# EAGLE library part ANTENOVA_GPS_M10382 (library fbri)
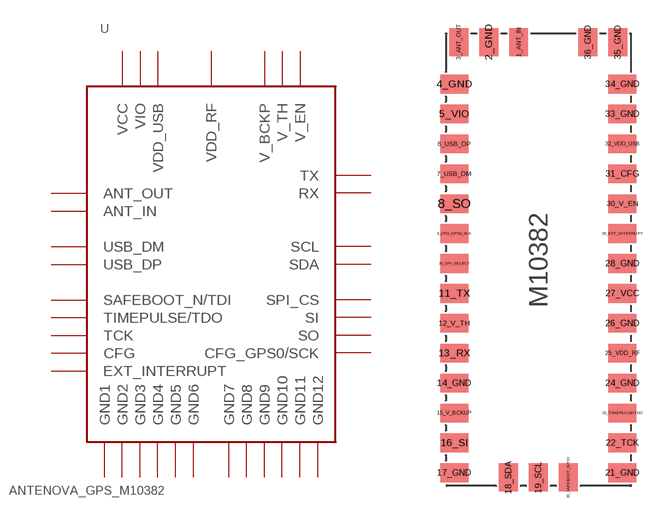
[diagram p0: symbol with the pads of ANTENOVA_GPS_M10382; footprint ANTENOVA_GPS_M10382]

Designator prefix -

## ANTENOVA_GPS_M10382  [ANTENOVA_GPS_M10382]
1_ANT_IN  ANT_IN  in
2_GND  GND1  pwr
3_ANT_OUT  ANT_OUT  out
4_GND  GND2  pwr
5_VIO  VIO
6_USB_DP  USB_DP
7_USB_DM  USB_DM
8_SO  SO
9_CFG_GPS0_SCK  CFG_GPS0/SCK
10_SPI_SELECT  SPI_CS
11_TX  TX
12_V_TH  V_TH
13_RX  RX
14_GND  GND3  pwr
15_V_BCKUP  V_BCKP
16_SI  SI
17_GND  GND4  pwr
18_SDA  SDA
19_SCL  SCL
20_SAFEBOOT_N/TDI  SAFEBOOT_N/TDI
21_GND  GND5
22_TCK  TCK
23_TIMEPULSE/TDO  TIMEPULSE/TDO
24_GND  GND6
25_VDD_RF  VDD_RF  pwr
26_GND  GND7  pwr
27_VCC  VCC  pwr
28_GND  GND8  pwr
29_EXT_INTERRUPT  EXT_INTERRUPT
30_V_EN  V_EN
31_CFG  CFG
32_VDD_USB  VDD_USB
33_GND  GND9  pwr
34_GND  GND10  pwr
35_GND  GND11
36_GND  GND12

## Footprint ANTENOVA_GPS_M10382 (pad centres in mm)
smd 1 x 1.5: 1_ANT_IN -1.05,11.65; 2_GND -2.65,11.65; 3_ANT_OUT -4.25,11.65; 18_SDA -1.6,-11.65; 19_SCL 0,-11.65; 20_SAFEBOOT_N/TDI 1.6,-11.65; 35_GND 4.25,11.65; 36_GND 2.65,11.65
smd 1.5 x 1: 4_GND -4.5,9.4; 5_VIO -4.5,7.8; 6_USB_DP -4.5,6.2; 7_USB_DM -4.5,4.6; 8_SO -4.5,3; 9_CFG_GPS0_SCK -4.5,1.4; 10_SPI_SELECT -4.5,-0.2; 11_TX -4.5,-1.8; 12_V_TH -4.5,-3.4; 13_RX -4.5,-5; 14_GND -4.5,-6.6; 15_V_BCKUP -4.5,-8.2; 16_SI -4.5,-9.8; 17_GND -4.5,-11.4; 21_GND 4.5,-11.4; 22_TCK 4.5,-9.8; 23_TIMEPULSE/TDO 4.5,-8.2; 24_GND 4.5,-6.6; 25_VDD_RF 4.5,-5; 26_GND 4.5,-3.4; 27_VCC 4.5,-1.8; 28_GND 4.5,-0.2; 29_EXT_INTERRUPT 4.5,1.4; 30_V_EN 4.5,3; 31_CFG 4.5,4.6; 32_VDD_USB 4.5,6.2; 33_GND 4.5,7.8; 34_GND 4.5,9.4